# EAGLE library part BGM111 (library jetney-silabs-modules)
Bluetooth 4.1 (4.2 ready) low-energy module (Bluetooth Smart) - BGM111-A variant has an on-module ceramic chip antenna. BGM111-A variant includes keepout/restrict area. Antenna edge of the module should be flush up against the edge of the PCB. See datasheet for variant layout details. IT IS EXTREMELY IMPORTANT THAT YOU FOLLOW THE LAYOUT GUIDELINES FOR THIS MODULE IN ORDER TO ENSURE MAXIMUM RANGE. THIS MEANS THAT YOU NEED A SOLID GROUND PLANE EXTENDING IDEALLY 17 mm ON THE LEFT AND RIGHT SIDES OF THE MODULE, AS SHOWN IN THE DATASHEET. The Silicon Labs Blue Gecko BGM111 Bluetooth® Smart module integrates our next generation wireless SoC with a complete Bluetooth Smart software stack and antenna to provide a complete, pre-certified plug-and-play Bluetooth Smart solution. It solves one of the major customer roadblocks for fast time-to-market as it integrates antenna, software and RF certifications, saving months of engineering effort and testing. EAGLE device created by Jeff Rowberg for Jetney Development at https://www.jetney.com Latest version maintained at https://github.com/jetney/jetney-eagle-libraries (jetney-silabs-modules.lbr) Last updated 2016-11-21
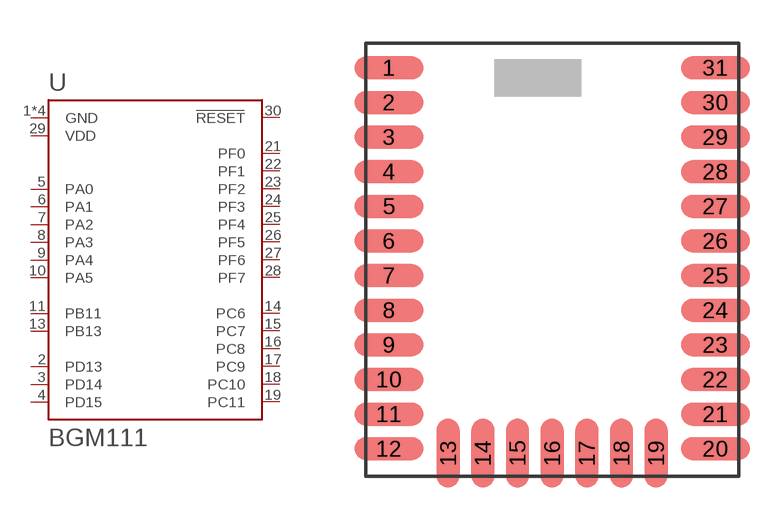
[diagram p24: symbol with the pads of BGM111-A; footprint BGM111-A]

Designator prefix U

## BGM111-A (ANTANNA: On-module ceramic chip antenna)  [BGM111-A]
1  GND  pwr
2  PD13
3  PD14
4  PD15
5  PA0
6  PA1
7  PA2
8  PA3
9  PA4
10  PA5
11  PB11
12  GND  pwr
13  PB13
14  PC6
15  PC7
16  PC8
17  PC9
18  PC10
19  PC11
20  GND  pwr
21  PF0
22  PF1
23  PF2
24  PF3
25  PF4
26  PF5
27  PF6
28  PF7
29  VDD  pwr
30  RESET  in
31  GND  pwr

## Footprint BGM111-A (pad centres in mm)
BGM111 Bluetooth Smart Module package PCB LAYOUT NOTE: The BGM111-A variant includes keepout/restrict area. The antenna edge of the module should be flush up against the edge of the PCB. See datasheet for variant layout details. IT IS EXTREMELY IMPORTANT THAT YOU FOLLOW THE LAYOUT GUIDELINES FOR THIS MODULE IN ORDER TO ENSURE MAXIMUM RANGE. THIS MEANS THAT YOU NEED A SOLID GROUND PLANE EXTENDING IDEALLY 17 mm ON THE LEFT AND RIGHT SIDES OF THE MODULE, AS SHOWN IN THE DATASHEET. Source: http://www.silabs.com/products/wireless/bluetooth/bluetooth-smart-modules/Pages/bgm111-bluetooth-smart-module.aspx EAGLE package created by Jeff Rowberg for Jetney Development at https://www.jetney.com Latest version maintained at https://github.com/jetney/jetney-eagle-libraries/blob/master/jetney-silabs-modules.lbr Last updated 2016-11-21
smd 2.4 x 0.8: 1 -5.65,6.65; 2 -5.65,5.45; 3 -5.65,4.25; 4 -5.65,3.05; 5 -5.65,1.85; 6 -5.65,0.65; 7 -5.65,-0.55; 8 -5.65,-1.75; 9 -5.65,-2.95; 10 -5.65,-4.15; 11 -5.65,-5.35; 12 -5.65,-6.55; 20 5.65,-6.55; 21 5.65,-5.35; 22 5.65,-4.15; 23 5.65,-2.95; 24 5.65,-1.75; 25 5.65,-0.55; 26 5.65,0.65; 27 5.65,1.85; 28 5.65,3.05; 29 5.65,4.25; 30 5.65,5.45; 31 5.65,6.65
smd 0.8 x 2.4: 13 -3.6,-6.7; 14 -2.4,-6.7; 15 -1.2,-6.7; 16 0,-6.7; 17 1.2,-6.7; 18 2.4,-6.7; 19 3.6,-6.7